# Altium schematic symbol library BCW31.SchLib: 1 symbol
Pins are listed as number, name and electrical type; pins without a type are passive.

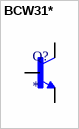
[diagram p0: symbol BCW31*]

## BCW31*
designator Q?
Bipolar (BJT) Transistor NPN General Purpose Amplifier Surface Mount; MF: ON Semiconductor; MP: BCW31; SnapEDA_Link: https://www.snapeda.com/parts/BCW31/Onsemi/view-part/?ref=snap; Package: SOT-23 ON Semiconductor; Value: *; Check_prices: https://www.snapeda.com/parts/BCW31/Onsemi/view-part/?ref=eda
footprint SOT23-BEC
pins: B, C, E